# EAGLE library part GNM214B11C104MA01D (library freega)
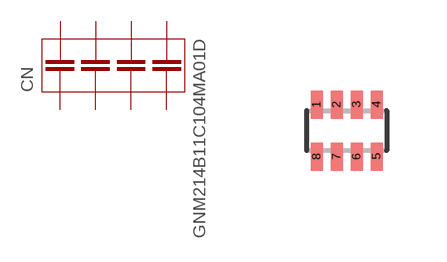
[diagram p1: symbol with the pads of CA4_0805; footprint CA4_0805]

Designator prefix CN

## GNM214B11C104MA01D  [CA4_0805]
1  1
2  2
3  3
4  4
5  5
6  6
7  7
8  8

## Footprint CA4_0805 (pad centres in mm)
smd 0.3 x 0.7: 1 -0.75,0.65; 2 -0.25,0.65; 3 0.25,0.65; 4 0.75,0.65; 5 0.75,-0.65; 6 0.25,-0.65; 7 -0.25,-0.65; 8 -0.75,-0.65